# Altium schematic symbol library SCH - RF - CONNECTOR - HIROSE MS-156HF.SCHLIB: 1 symbol
Pins are listed as number, name and electrical type; pins without a type are passive.

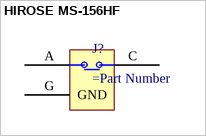
[diagram p0: symbol HIROSE MS-156HF]

## HIROSE MS-156HF
designator J?
pins: A, C, G GND